# Altium schematic symbol library Buzzer_Sch.SchLib: 2 symbols
Pins are listed as number, name and electrical type; pins without a type are passive.

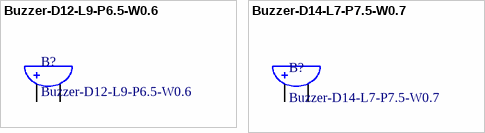
[diagram p0: symbols Buzzer-D12-L9-P6.5-W0.6 to Buzzer-D14-L7-P7.5-W0.7]

## Buzzer-D12-L9-P6.5-W0.6
designator B?
Buzzer; Pitch: 6.5mm; Wire Diameter: 0.6mm; Frequency: 2.4kHz; Voltage: 5V; Diameter: 12mm; Length: 9mm; Mounting Type: THT; ComponentLink1Description: Link
footprint D12-L9-P6.5-W0.6
pins: 1 +, 2 -

## Buzzer-D14-L7-P7.5-W0.7
designator B?
Buzzer; Pitch: 7.5mm; Wire Diameter: 0.7mm; Frequency: 2.4kHz; Voltage: 5V; Diameter: 14mm; Length: 7mm; Mounting Type: THT; ComponentLink1Description: Link
footprint D14-L7-P7.5-W0.7
pins: 1 +, 2 -